# EAGLE library part TI_TV_SOCKET_PUSHPULL_POWERED (library CardEdgePads)
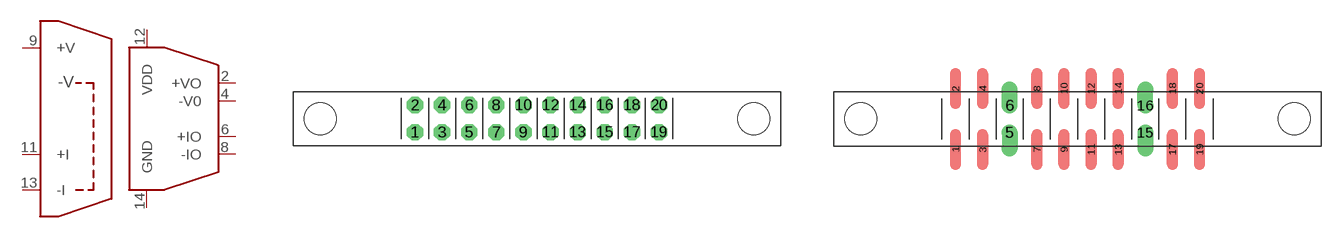
[diagram p6: symbol with the pads of 2X10_SOCKET; footprints 2X10_SOCKET, 2X10_SOCKET_SMD]

Designator prefix TI_TV

## TI_TV_SOCKET_PUSHPULL_POWERED'THROUGH_HOLE'  [2X10_SOCKET]
2  +VO
4  -V0
6  +IO
8  -IO
9  +V
11  +I
12  VDD
13  -I
14  GND

## TI_TV_SOCKET_PUSHPULL_POWERED'SMD'  [2X10_SOCKET_SMD]
Pads as for 2X10_SOCKET

## Footprint 2X10_SOCKET (pad centres in mm)
drill 1.016 octagon: 1 -11.43,-1.27; 2 -11.43,1.27; 3 -8.89,-1.27; 4 -8.89,1.27; 5 -6.35,-1.27; 6 -6.35,1.27; 7 -3.81,-1.27; 8 -3.81,1.27; 9 -1.27,-1.27; 10 -1.27,1.27; 11 1.27,-1.27; 12 1.27,1.27; 13 3.81,-1.27; 14 3.81,1.27; 15 6.35,-1.27; 16 6.35,1.27; 17 8.89,-1.27; 18 8.89,1.27; 19 11.43,-1.27; 20 11.43,1.27
hole 3 at -20.32,0
hole 3 at 20.32,0

## Footprint 2X10_SOCKET_SMD (pad centres in mm)
smd 1.016 x 3.81: 1 -11.43,-2.857; 2 -11.43,2.857; 3 -8.89,-2.857; 4 -8.89,2.857; 7 -3.81,-2.857; 8 -3.81,2.857; 9 -1.27,-2.857; 10 -1.27,2.857; 11 1.27,-2.857; 12 1.27,2.857; 13 3.81,-2.857; 14 3.81,2.857; 17 8.89,-2.857; 18 8.89,2.857; 19 11.43,-2.857; 20 11.43,2.857
drill 1 pad 1.5 offset: 5 -6.35,-1.27; 6 -6.35,1.27; 15 6.35,-1.27; 16 6.35,1.27